# Altium footprint library XT60H-M.PcbLib: 1 footprints
Each footprint in its own frame and in the unit in brackets; x right, y up, seen from the top. Pads: shape width x height; smd on the part's side, far side on the other; paste and mask are expansions set on the pad; w line width, h text height; cw(c..) or ccw(c..) is an arc to the next point about the centre after c.
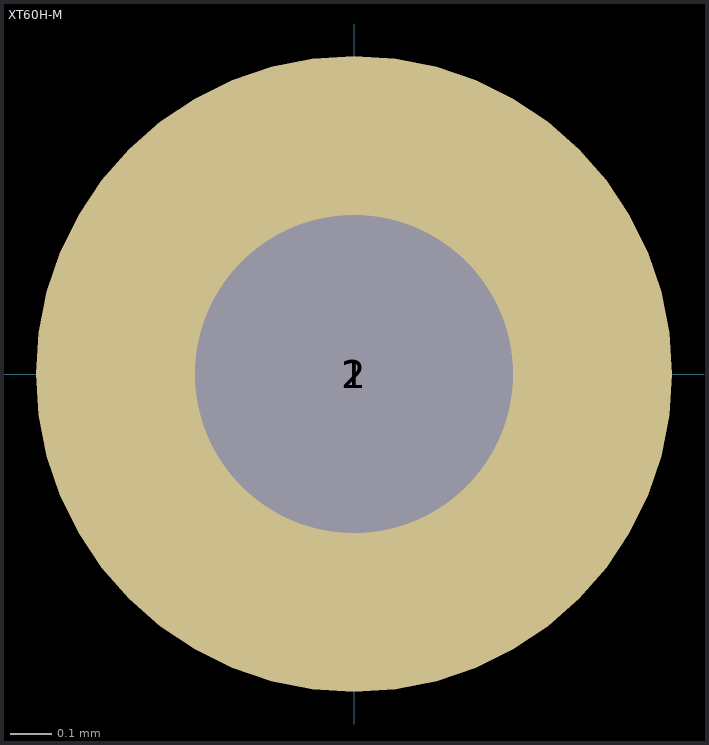
[diagram p0: the footprint, top view; thin cyan lines are the x and y axes]

## XT60H-M [mil]
pads (2):
  round 60 hole 30: 1(0,0) 2(0,0)
3D body "XT60H-M.stp": height 500, standoff -307.09, extent -159.45,-305.12 159.45,305.12